# Altium footprint library SOD3715X145N.PcbLib: 1 footprints
Each footprint in its own frame and in the unit in brackets; x right, y up, seen from the top. Pads: shape width x height; smd on the part's side, far side on the other; paste and mask are expansions set on the pad; w line width, h text height; cw(c..) or ccw(c..) is an arc to the next point about the centre after c.
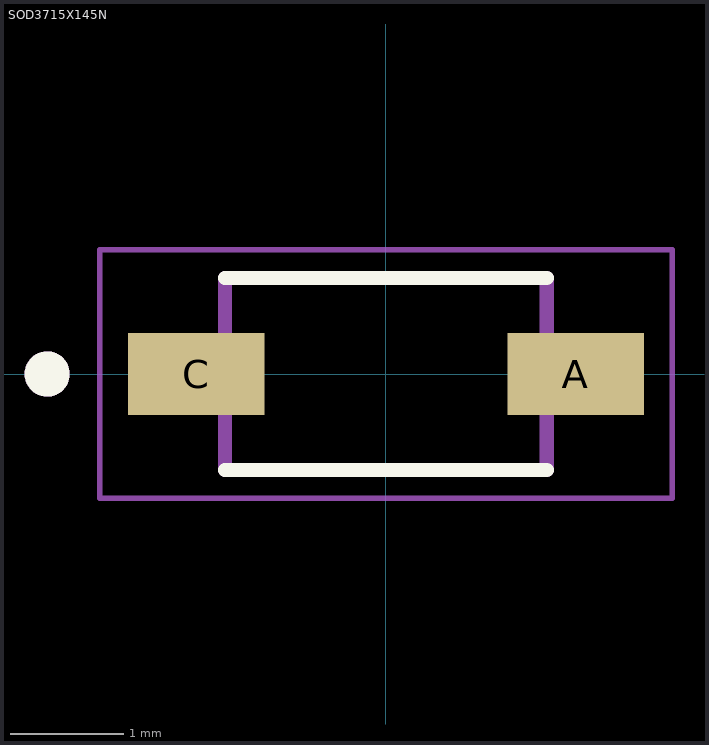
[diagram p0: the footprint, top view; thin cyan lines are the x and y axes]

## SOD3715X145N [mm]
pads (2):
  rect 1.21x0.73 smd: A(1.68,0) C(-1.68,0)
Top Overlay:
  circle w0.2: c-3,0 r0.1
  lines w0.127: -1.425,-0.85 1.425,-0.85 ; -1.425,0.85 1.425,0.85
Mechanical 13:
  circle w0.2: c-3,0 r0.1
  lines w0.127: -1.425,-0.85 -1.425,0.85 1.425,0.85 1.425,-0.85 -1.425,-0.85
Mechanical 15:
  lines w0.05: -2.535,-1.1 -2.535,1.1 2.535,1.1 2.535,-1.1 -2.535,-1.1
3D body "step_temp.STEP": height 1.5, standoff -0.03, extent -1.825,-0.775 1.825,0.775